# Altium schematic symbol library Crystals.SchLib: 3 symbols
Pins are listed as number, name and electrical type; pins without a type are passive.

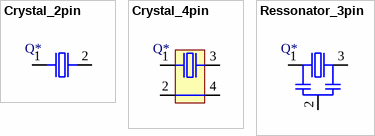
[diagram p0: symbols Crystal_2pin to Ressonator_3pin]

## Crystal_2pin
designator Q*  (value not drawn)
=description
pins: 1, 2

## Crystal_4pin
designator Q*  (value not drawn)
=description
pins: 1, 2, 3, 4

## Ressonator_3pin
designator Q*  (value not drawn)
=description
pins: 1, 2, 3